# EAGLE library part ADL5519 (library NewSDR)
Analog Devices 1 MHz to 10 GHz, 62 dB Dual Log Detector
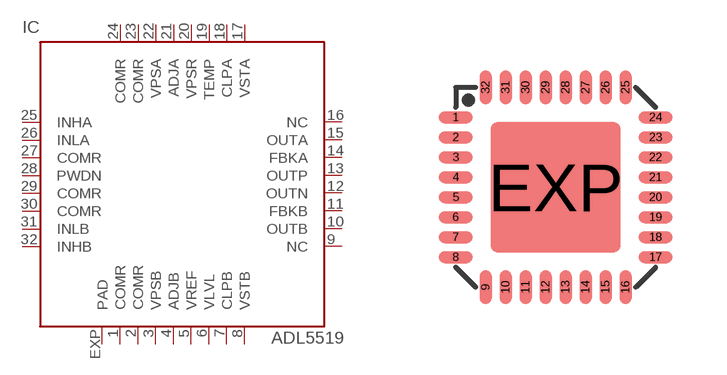
[diagram p153: symbol with the pads of LFCSP32; footprint LFCSP32]

Designator prefix IC

## ADL5519  [LFCSP32]
1  COMR  pwr
2  COMR  pwr
3  VPSB  pwr
4  ADJB  pas
5  VREF  pas
6  VLVL  pas
7  CLPB  pas
8  VSTB  pas
9  NC  nc
10  OUTB  out
11  FBKB  pas
12  OUTN  out
13  OUTP  out
14  FBKA  pas
15  OUTA  out
16  NC  nc
17  VSTA  pas
18  CLPA  pas
19  TEMP  out
20  VPSR  pwr
21  ADJA  pas
22  VPSA  pwr
23  COMR  pwr
24  COMR  pwr
25  INHA  in
26  INLA  in
27  COMR  pwr
28  PWDN  in
29  COMR  pwr
30  COMR  pwr
31  INLB  in
32  INHB  in
EXP  PAD  pwr

## Footprint LFCSP32 (pad centres in mm)
32-Lead Lead Frame Chip Scale Package 5 mm × 5 mm (CP-32) Source: www.analog.com
smd 0.85 x 0.3: 1 -2.5,1.75; 2 -2.5,1.25; 3 -2.5,0.75; 4 -2.5,0.25; 5 -2.5,-0.25; 6 -2.5,-0.75; 7 -2.5,-1.25; 8 -2.5,-1.75; 17 2.5,-1.75; 18 2.5,-1.25; 19 2.5,-0.75; 20 2.5,-0.25; 21 2.5,0.25; 22 2.5,0.75; 23 2.5,1.25; 24 2.5,1.75
smd 0.3 x 0.85: 9 -1.75,-2.5; 10 -1.25,-2.5; 11 -0.75,-2.5; 12 -0.25,-2.5; 13 0.25,-2.5; 14 0.75,-2.5; 15 1.25,-2.5; 16 1.75,-2.5; 25 1.75,2.5; 26 1.25,2.5; 27 0.75,2.5; 28 0.25,2.5; 29 -0.25,2.5; 30 -0.75,2.5; 31 -1.25,2.5; 32 -1.75,2.5
smd 3.25 x 3.25: EXP 0,0